# Altium footprint library Filtr_drossel.PcbLib: 1 footprints
Each footprint in its own frame and in the unit in brackets; x right, y up, seen from the top. Pads: shape width x height; smd on the part's side, far side on the other; paste and mask are expansions set on the pad; w line width, h text height; cw(c..) or ccw(c..) is an arc to the next point about the centre after c.
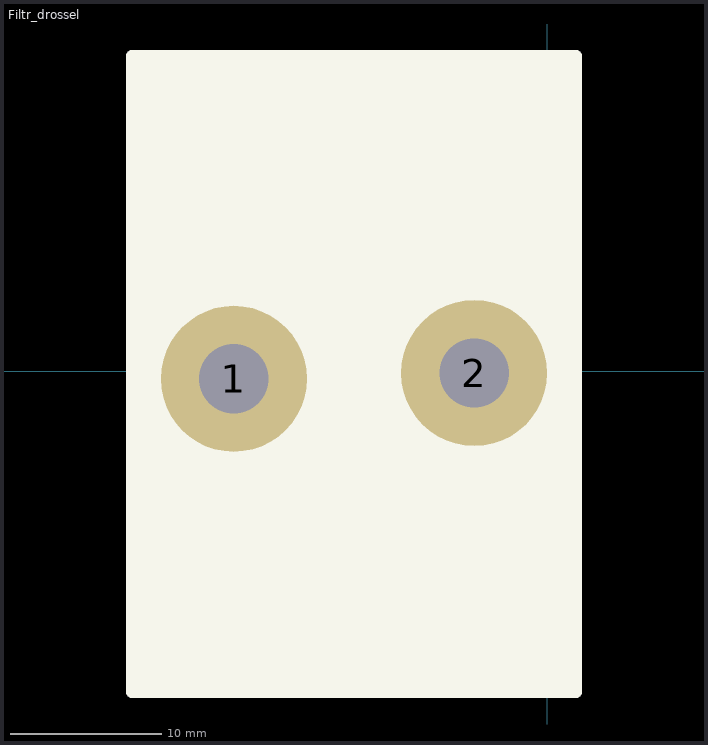
[diagram p0: the footprint, top view; thin cyan lines are the x and y axes]

## Filtr_drossel [mil]
pads (2):
  round 380 hole 180: 1(-815,-20) 2(-190,-5)
Top Overlay:
  rectangle: -1080,-835 75,820
  lines w30: -1080,-835 75,-835 75,820 -1080,820 -1080,-835
3D body "Фильтр питания БП маховика.STEP": height 1533.72, standoff -178.77, extent -923.39,-726.54 -96.61,706.54